# Altium schematic symbol library RES0603_TEMPLATE.SchLib: 1 symbol
Pins are listed as number, name and electrical type; pins without a type are passive.

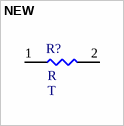
[diagram p0: symbol NEW]

## NEW
designator R?  Resistance: R  Tolerance: T  (hidden comment: NEW)
[DESC]; Footprint: RES0603; Package: 0603; ComponentLink1Description: Datasheet
footprint RES0603 (Generic 0603)
pins: 1, 2